# Altium footprint library RPR359F.PcbLib: 1 footprints
Each footprint in its own frame and in the unit in brackets; x right, y up, seen from the top. Pads: shape width x height; smd on the part's side, far side on the other; paste and mask are expansions set on the pad; w line width, h text height; cw(c..) or ccw(c..) is an arc to the next point about the centre after c.
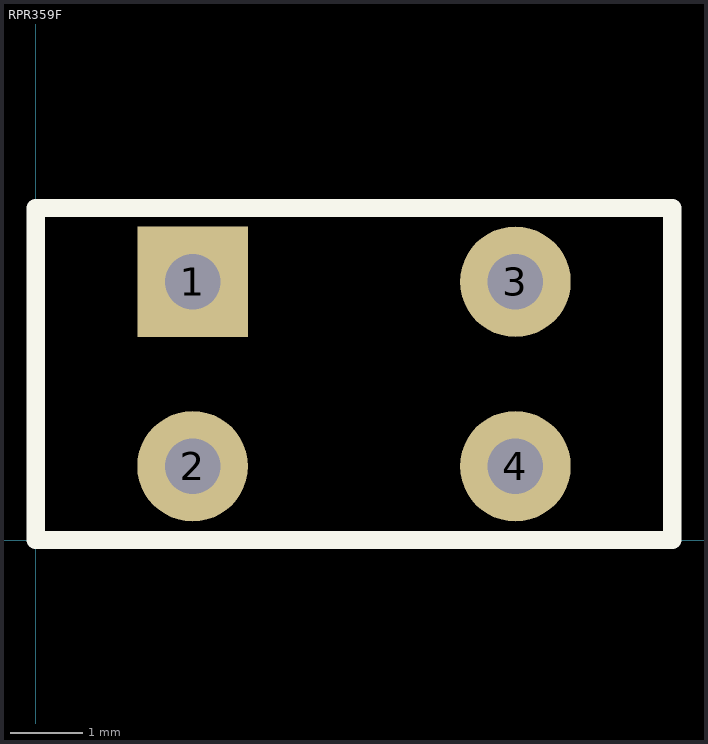
[diagram p0: the footprint, top view; thin cyan lines are the x and y axes]

## RPR359F [mil]
pads (4):
  rect 60x60 hole 30: 1(85,140)
  round 60 hole 30: 2(85,40) 3(260,140) 4(260,40)
Top Overlay:
  lines w10: 0,0 345,0 345,180 0,180 0,0